# Altium schematic symbol library PWM_controller.SchLib: 1 symbol
Pins are listed as number, name and electrical type; pins without a type are passive.

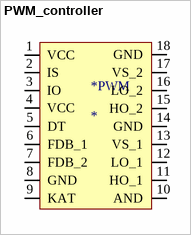
[diagram p0: symbol PWM_controller]

## PWM_controller
designator *PWM
PWM_controller
footprint PWM_controller
pins: 1 VCC, 2 IS, 3 IO, 4 VCC, 5 DT, 6 FDB_1, 7 FDB_2, 8 GND, 9 KAT, 10 AND, 11 HO_1, 12 LO_1, 13 VS_1, 14 GND, 15 HO_2, 16 LO_2, 17 VS_2, 18 GND